# Altium schematic symbol library SCH - POWER - SWITCHMODE - TI TPS65218D0 RSL.SCHLIB: 1 symbol
Pins are listed as number, name and electrical type; pins without a type are passive.

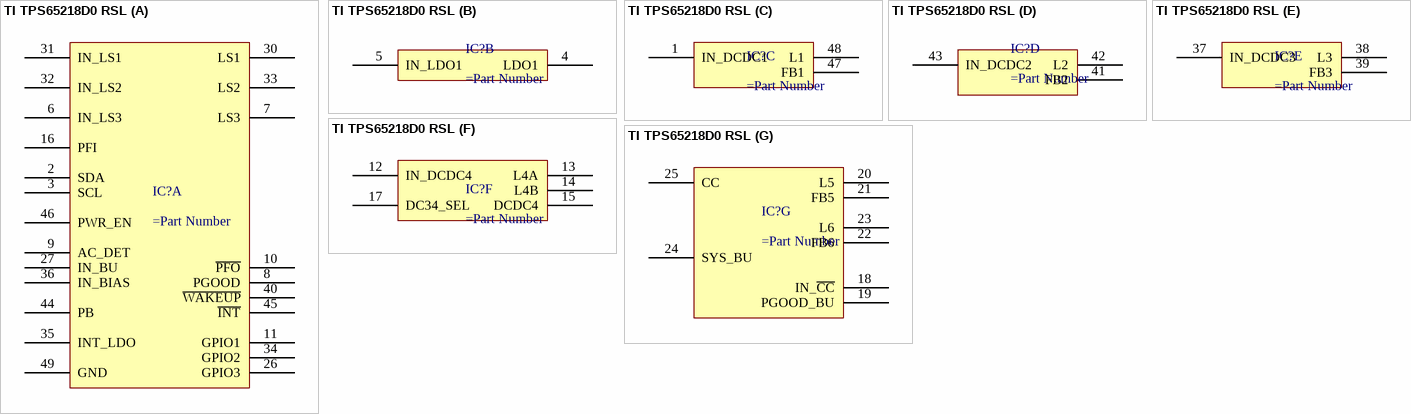
[diagram p0: symbol TI TPS65218D0 RSL]

## TI TPS65218D0 RSL
designator IC?
part A pins: 2 SDA, 3 SCL, 6 IN_LS3, 7 LS3, 8 PGOOD, 9 AC_DET, 10 ~{PFO}, 11 GPIO1, 16 PFI, 26 GPIO3, 27 IN_BU, 30 LS1, 31 IN_LS1, 32 IN_LS2, 33 LS2, 34 GPIO2, 35 INT_LDO, 36 IN_BIAS, 40 ~{WAKEUP}, 44 PB, 45 ~{INT}, 46 PWR_EN, 49 GND
part B pins: 4 LDO1, 5 IN_LDO1
part C pins: 1 IN_DCDC1, 47 FB1, 48 L1
part D pins: 41 FB2, 42 L2, 43 IN_DCDC2
part E pins: 37 IN_DCDC3, 38 L3, 39 FB3
part F pins: 12 IN_DCDC4, 13 L4A, 14 L4B, 15 DCDC4, 17 DC34_SEL
part G pins: 18 IN_~{CC}, 19 PGOOD_BU, 20 L5, 21 FB5, 22 FB6, 23 L6, 24 SYS_BU, 25 CC